# Altium integrated library 74HC.IntLib: 10 symbols
Pins are listed as number, name and electrical type; pins without a type are passive.

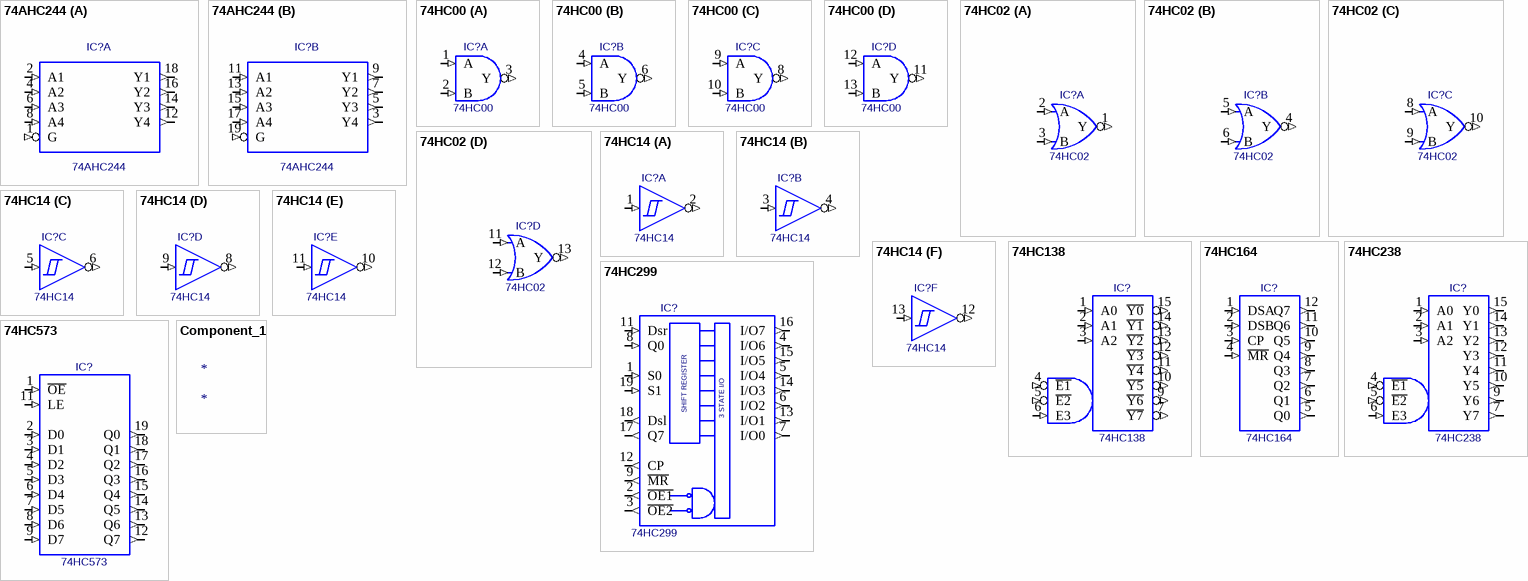
[diagram p0: symbols 74AHC244 to Component_1]

## 74AHC244
designator IC?
Value: *
footprint SO20
pins on every part: 10 GND (power) hidden, 20 VCC (power) hidden
part A pins: 1 G (in), 2 A1 (in), 4 A2 (in), 6 A3 (in), 8 A4 (in), 12 Y4 (out), 14 Y3 (out), 16 Y2 (out), 18 Y1 (out)
part B pins: 3 Y4 (out), 5 Y3 (out), 7 Y2 (out), 9 Y1 (out), 11 A1 (in), 13 A2 (in), 15 A3 (in), 17 A4 (in), 19 G (in)

## 74HC00
designator IC?
Value: *
footprint DIP14
pins on every part: 7 GND (power) hidden, 14 VCC (power) hidden
part A pins: 1 A (in), 2 B (in), 3 Y (out)
part B pins: 4 A (in), 5 B (in), 6 Y (out)
part C pins: 8 Y (out), 9 A (in), 10 B (in)
part D pins: 11 Y (out), 12 A (in), 13 B (in)

## 74HC02
designator IC?
Value: *
footprint DIP14
pins on every part: 7 GND (power) hidden, 14 VCC (power) hidden
part A pins: 1 Y (out), 2 A (in), 3 B (in)
part B pins: 4 Y (out), 5 A (in), 6 B (in)
part C pins: 8 A (in), 9 B (in), 10 Y (out)
part D pins: 11 A (in), 12 B (in), 13 Y (out)

## 74HC14
designator IC?
Value: *
footprint DIP14
pins on every part: 7 GND (power) hidden, 14 VCC (power) hidden
part A pins: 1 A (in), 2 Y (out)
part B pins: 3 A (in), 4 Y (out)
part C pins: 5 A (in), 6 Y (out)
part D pins: 8 Y (out), 9 A (in)
part E pins: 10 Y (out), 11 A (in)
part F pins: 12 Y (out), 13 A (in)

## 74HC138
designator IC?
Value: *
footprint DIP16
pins: 1 A0 (in), 2 A1 (in), 3 A2 (in), 4 ~{E1} (in), 5 ~{E2} (in), 6 E3 (in), 7 ~{Y7} (out), 8 GND (power) hidden, 9 ~{Y6} (out), 10 ~{Y5} (out), 11 ~{Y4} (out), 12 ~{Y3} (out), 13 ~{Y2} (out), 14 ~{Y1} (out), 15 ~{Y0} (out), 16 VCC (power) hidden

## 74HC164
designator IC?
Value: *
pins: 1 DSA (in), 2 DSB (in), 3 CP (in), 4 ~{MR} (in), 5 Q0 (out), 6 Q1 (out), 7 Q2 (out), 8 Q3 (out), 9 Q4 (out), 10 Q5 (out), 11 Q6 (out), 12 Q7 (out), GND (power) hidden, VCC (power) hidden

## 74HC238
designator IC?
Value: *
footprint DIP16
pins: 1 A0 (in), 2 A1 (in), 3 A2 (in), 4 ~{E1} (in), 5 ~{E2} (in), 6 E3 (in), 7 Y7 (out), 8 GND (power) hidden, 9 Y6 (out), 10 Y5 (out), 11 Y4 (out), 12 Y3 (out), 13 Y2 (out), 14 Y1 (out), 15 Y0 (out), 16 VCC (power) hidden

## 74HC299
designator IC?
Value: *
pins: 1 S0 (in), 2 ~{OE1} (out), 3 ~{OE2} (out), 4 I/O6 (out), 5 I/O4 (out), 6 I/O2 (out), 7 I/O0 (out), 8 Q0 (in), 9 ~{MR} (out), 11 Dsr (in), 12 CP (out), 13 I/O1 (out), 14 I/O3 (out), 15 I/O5 (out), 16 I/O7 (out), 17 Q7 (out), 18 Dsl (out), 19 S1 (in), GND (power) hidden, VCC (power) hidden
text: SHIFT REGISTER; 3 STATE I/O

## 74HC573
designator IC?
Value: *
footprint DIP20
pins: 1 ~{OE} (in), 2 D0 (in), 3 D1 (in), 4 D2 (in), 5 D3 (in), 6 D4 (in), 7 D5 (in), 8 D6 (in), 9 D7 (in), 10 GND (power) hidden, 11 LE (in), 12 Q7 (out), 13 Q6 (out), 14 Q5 (out), 15 Q4 (out), 16 Q3 (out), 17 Q2 (out), 18 Q1 (out), 19 Q0 (out), 20 VCC (power) hidden

## Component_1
designator *